# Altium footprint library SamacSys.PcbLib: 2 footprints
Each footprint in its own frame and in the unit in brackets; x right, y up, seen from the top. Pads: shape width x height; smd on the part's side, far side on the other; paste and mask are expansions set on the pad; w line width, h text height; cw(c..) or ccw(c..) is an arc to the next point about the centre after c.
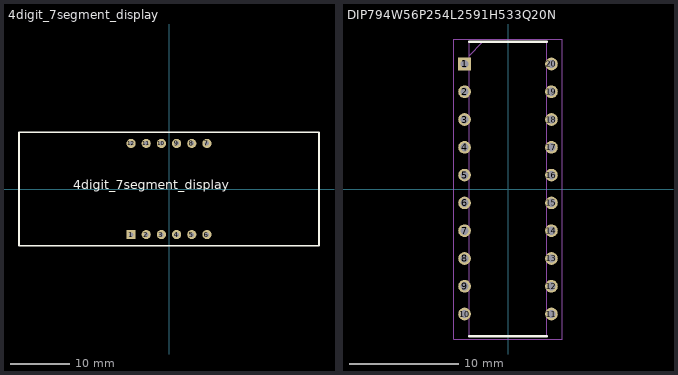
[diagram p0: the footprints below, top view; thin cyan lines are the x and y axes]

## 4digit_7segment_display [mil]
pads (12):
  rect 60x60 hole 30: 1(-250,-300)
  round 60 hole 30: 2(-150,-300) 3(-50,-300) 4(50,-300) 5(150,-300) 6(250,-300) 7(250,300) 8(150,300) 9(50,300) 10(-50,300) 11(-150,300) 12(-250,300)
Top Overlay:
  lines w10: -988.19,-374.02 -988.19,374.02 988.19,374.02 988.19,-374.02 -988.19,-374.02
  text "4digit_7segment_display" at -629.92,0 h60

## DIP794W56P254L2591H533Q20N [mil]
pads (20):
  rect 45.63x45.63 hole 29.88: 1(-156.26,450)
  round 45.63 hole 29.88: 2(-156.26,350) 3(-156.26,250) 4(-156.26,150) 5(-156.26,50) 6(-156.26,-50) 7(-156.26,-150) 8(-156.26,-250) 9(-156.26,-350) 10(-156.26,-450) 11(156.26,-450) 12(156.26,-350) 13(156.26,-250) 14(156.26,-150) 15(156.26,-50) 16(156.26,50) 17(156.26,150) 18(156.26,250) 19(156.26,350) 20(156.26,450)
Top Overlay:
  lines w7.87: -140,-530 140,-530 ; -140,530 140,530
Mechanical 13:
  lines w3.94: -140,480 -90,530 ; -140,-530 140,-530 140,530 -140,530 -140,-530
Mechanical 15:
  lines w1.97: -195.16,-539.84 195.16,-539.84 195.16,539.84 -195.16,539.84 -195.16,-539.84
3D body "AT89C2051-24PU.stp": height 210, standoff -137.8, extent -161.75,-510 161.75,510